# Altium schematic symbol library SCH - MCU - ATSAM - MICROCHIP SAMD51P19A-CTU TFBGA120.SchLib: 1 symbol
Pins are listed as number, name and electrical type; pins without a type are passive.

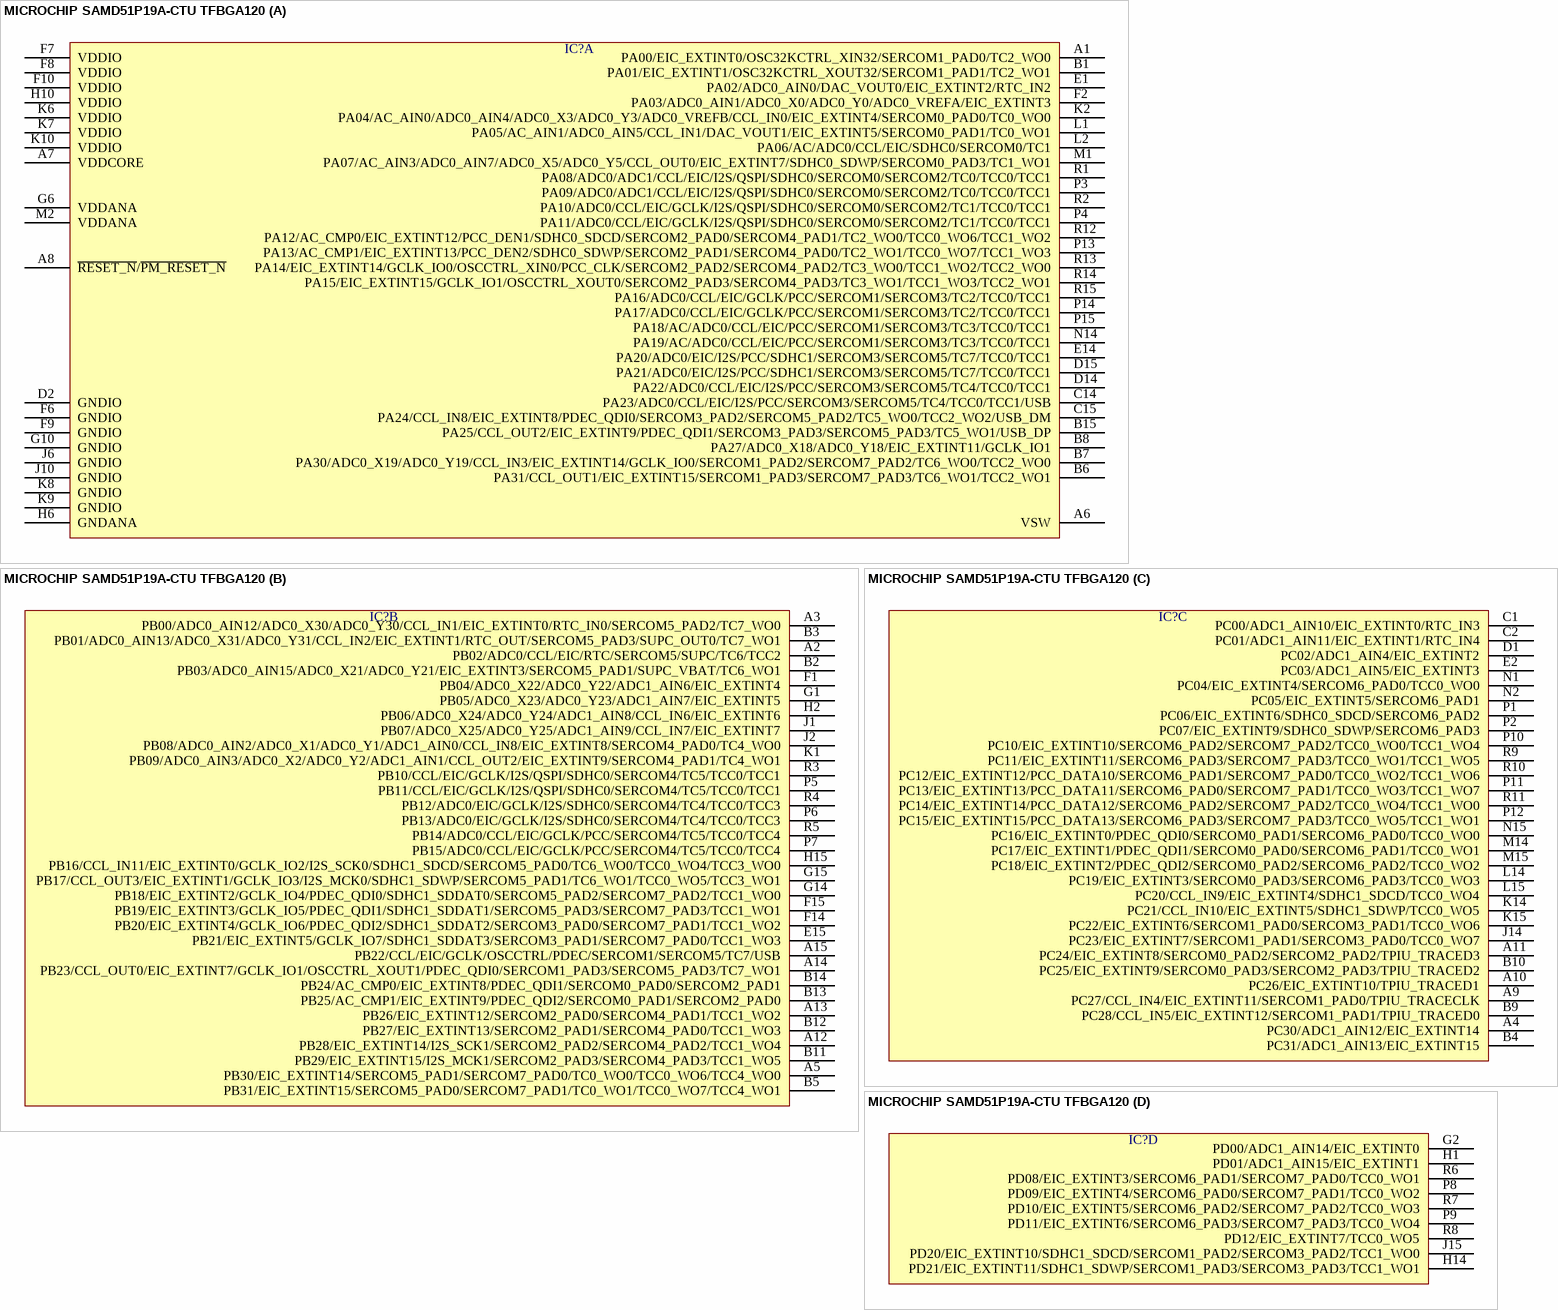
[diagram p0: symbol MICROCHIP SAMD51P19A-CTU TFBGA120]

## MICROCHIP SAMD51P19A-CTU TFBGA120
designator IC?  (value not drawn)
part A pins: A1 PA00/EIC_EXTINT0/OSC32KCTRL_XIN32/SERCOM1_PAD0/TC2_WO0, A6 VSW, A7 VDDCORE, A8 ~{RESET_N}/~{PM_RESET_N}, B1 PA01/EIC_EXTINT1/OSC32KCTRL_XOUT32/SERCOM1_PAD1/TC2_WO1, B6 PA31/CCL_OUT1/EIC_EXTINT15/SERCOM1_PAD3/SERCOM7_PAD3/TC6_WO1/TCC2_WO1, B7 PA30/ADC0_X19/ADC0_Y19/CCL_IN3/EIC_EXTINT14/GCLK_IO0/SERCOM1_PAD2/SERCOM7_PAD2/TC6_WO0/TCC2_WO0, B8 PA27/ADC0_X18/ADC0_Y18/EIC_EXTINT11/GCLK_IO1, B15 PA25/CCL_OUT2/EIC_EXTINT9/PDEC_QDI1/SERCOM3_PAD3/SERCOM5_PAD3/TC5_WO1/USB_DP, C14 PA23/ADC0/CCL/EIC/I2S/PCC/SERCOM3/SERCOM5/TC4/TCC0/TCC1/USB, C15 PA24/CCL_IN8/EIC_EXTINT8/PDEC_QDI0/SERCOM3_PAD2/SERCOM5_PAD2/TC5_WO0/TCC2_WO2/USB_DM, D2 GNDIO, D14 PA22/ADC0/CCL/EIC/I2S/PCC/SERCOM3/SERCOM5/TC4/TCC0/TCC1, D15 PA21/ADC0/EIC/I2S/PCC/SDHC1/SERCOM3/SERCOM5/TC7/TCC0/TCC1, E1 PA02/ADC0_AIN0/DAC_VOUT0/EIC_EXTINT2/RTC_IN2, E14 PA20/ADC0/EIC/I2S/PCC/SDHC1/SERCOM3/SERCOM5/TC7/TCC0/TCC1, F2 PA03/ADC0_AIN1/ADC0_X0/ADC0_Y0/ADC0_VREFA/EIC_EXTINT3, F6 GNDIO, F7 VDDIO, F8 VDDIO, F9 GNDIO, F10 VDDIO, G6 VDDANA, G10 GNDIO, H6 GNDANA, H10 VDDIO, J6 GNDIO, J10 GNDIO, K2 PA04/AC_AIN0/ADC0_AIN4/ADC0_X3/ADC0_Y3/ADC0_VREFB/CCL_IN0/EIC_EXTINT4/SERCOM0_PAD0/TC0_WO0, K6 VDDIO, K7 VDDIO, K8 GNDIO, K9 GNDIO, K10 VDDIO, L1 PA05/AC_AIN1/ADC0_AIN5/CCL_IN1/DAC_VOUT1/EIC_EXTINT5/SERCOM0_PAD1/TC0_WO1, L2 PA06/AC/ADC0/CCL/EIC/SDHC0/SERCOM0/TC1, M1 PA07/AC_AIN3/ADC0_AIN7/ADC0_X5/ADC0_Y5/CCL_OUT0/EIC_EXTINT7/SDHC0_SDWP/SERCOM0_PAD3/TC1_WO1, M2 VDDANA, N14 PA19/AC/ADC0/CCL/EIC/PCC/SERCOM1/SERCOM3/TC3/TCC0/TCC1, P3 PA09/ADC0/ADC1/CCL/EIC/I2S/QSPI/SDHC0/SERCOM0/SERCOM2/TC0/TCC0/TCC1, P4 PA11/ADC0/CCL/EIC/GCLK/I2S/QSPI/SDHC0/SERCOM0/SERCOM2/TC1/TCC0/TCC1, P13 PA13/AC_CMP1/EIC_EXTINT13/PCC_DEN2/SDHC0_SDWP/SERCOM2_PAD1/SERCOM4_PAD0/TC2_WO1/TCC0_WO7/TCC1_WO3, P14 PA17/ADC0/CCL/EIC/GCLK/PCC/SERCOM1/SERCOM3/TC2/TCC0/TCC1, P15 PA18/AC/ADC0/CCL/EIC/PCC/SERCOM1/SERCOM3/TC3/TCC0/TCC1, R1 PA08/ADC0/ADC1/CCL/EIC/I2S/QSPI/SDHC0/SERCOM0/SERCOM2/TC0/TCC0/TCC1, R2 PA10/ADC0/CCL/EIC/GCLK/I2S/QSPI/SDHC0/SERCOM0/SERCOM2/TC1/TCC0/TCC1, R12 PA12/AC_CMP0/EIC_EXTINT12/PCC_DEN1/SDHC0_SDCD/SERCOM2_PAD0/SERCOM4_PAD1/TC2_WO0/TCC0_WO6/TCC1_WO2, R13 PA14/EIC_EXTINT14/GCLK_IO0/OSCCTRL_XIN0/PCC_CLK/SERCOM2_PAD2/SERCOM4_PAD2/TC3_WO0/TCC1_WO2/TCC2_WO0, R14 PA15/EIC_EXTINT15/GCLK_IO1/OSCCTRL_XOUT0/SERCOM2_PAD3/SERCOM4_PAD3/TC3_WO1/TCC1_WO3/TCC2_WO1, R15 PA16/ADC0/CCL/EIC/GCLK/PCC/SERCOM1/SERCOM3/TC2/TCC0/TCC1
part B pins: A2 PB02/ADC0/CCL/EIC/RTC/SERCOM5/SUPC/TC6/TCC2, A3 PB00/ADC0_AIN12/ADC0_X30/ADC0_Y30/CCL_IN1/EIC_EXTINT0/RTC_IN0/SERCOM5_PAD2/TC7_WO0, A5 PB30/EIC_EXTINT14/SERCOM5_PAD1/SERCOM7_PAD0/TC0_WO0/TCC0_WO6/TCC4_WO0, A12 PB28/EIC_EXTINT14/I2S_SCK1/SERCOM2_PAD2/SERCOM4_PAD2/TCC1_WO4, A13 PB26/EIC_EXTINT12/SERCOM2_PAD0/SERCOM4_PAD1/TCC1_WO2, A14 PB23/CCL_OUT0/EIC_EXTINT7/GCLK_IO1/OSCCTRL_XOUT1/PDEC_QDI0/SERCOM1_PAD3/SERCOM5_PAD3/TC7_WO1, A15 PB22/CCL/EIC/GCLK/OSCCTRL/PDEC/SERCOM1/SERCOM5/TC7/USB, B2 PB03/ADC0_AIN15/ADC0_X21/ADC0_Y21/EIC_EXTINT3/SERCOM5_PAD1/SUPC_VBAT/TC6_WO1, B3 PB01/ADC0_AIN13/ADC0_X31/ADC0_Y31/CCL_IN2/EIC_EXTINT1/RTC_OUT/SERCOM5_PAD3/SUPC_OUT0/TC7_WO1, B5 PB31/EIC_EXTINT15/SERCOM5_PAD0/SERCOM7_PAD1/TC0_WO1/TCC0_WO7/TCC4_WO1, B11 PB29/EIC_EXTINT15/I2S_MCK1/SERCOM2_PAD3/SERCOM4_PAD3/TCC1_WO5, B12 PB27/EIC_EXTINT13/SERCOM2_PAD1/SERCOM4_PAD0/TCC1_WO3, B13 PB25/AC_CMP1/EIC_EXTINT9/PDEC_QDI2/SERCOM0_PAD1/SERCOM2_PAD0, B14 PB24/AC_CMP0/EIC_EXTINT8/PDEC_QDI1/SERCOM0_PAD0/SERCOM2_PAD1, E15 PB21/EIC_EXTINT5/GCLK_IO7/SDHC1_SDDAT3/SERCOM3_PAD1/SERCOM7_PAD0/TCC1_WO3, F1 PB04/ADC0_X22/ADC0_Y22/ADC1_AIN6/EIC_EXTINT4, F14 PB20/EIC_EXTINT4/GCLK_IO6/PDEC_QDI2/SDHC1_SDDAT2/SERCOM3_PAD0/SERCOM7_PAD1/TCC1_WO2, F15 PB19/EIC_EXTINT3/GCLK_IO5/PDEC_QDI1/SDHC1_SDDAT1/SERCOM5_PAD3/SERCOM7_PAD3/TCC1_WO1, G1 PB05/ADC0_X23/ADC0_Y23/ADC1_AIN7/EIC_EXTINT5, G14 PB18/EIC_EXTINT2/GCLK_IO4/PDEC_QDI0/SDHC1_SDDAT0/SERCOM5_PAD2/SERCOM7_PAD2/TCC1_WO0, G15 PB17/CCL_OUT3/EIC_EXTINT1/GCLK_IO3/I2S_MCK0/SDHC1_SDWP/SERCOM5_PAD1/TC6_WO1/TCC0_WO5/TCC3_WO1, H2 PB06/ADC0_X24/ADC0_Y24/ADC1_AIN8/CCL_IN6/EIC_EXTINT6, H15 PB16/CCL_IN11/EIC_EXTINT0/GCLK_IO2/I2S_SCK0/SDHC1_SDCD/SERCOM5_PAD0/TC6_WO0/TCC0_WO4/TCC3_WO0, J1 PB07/ADC0_X25/ADC0_Y25/ADC1_AIN9/CCL_IN7/EIC_EXTINT7, J2 PB08/ADC0_AIN2/ADC0_X1/ADC0_Y1/ADC1_AIN0/CCL_IN8/EIC_EXTINT8/SERCOM4_PAD0/TC4_WO0, K1 PB09/ADC0_AIN3/ADC0_X2/ADC0_Y2/ADC1_AIN1/CCL_OUT2/EIC_EXTINT9/SERCOM4_PAD1/TC4_WO1, P5 PB11/CCL/EIC/GCLK/I2S/QSPI/SDHC0/SERCOM4/TC5/TCC0/TCC1, P6 PB13/ADC0/EIC/GCLK/I2S/SDHC0/SERCOM4/TC4/TCC0/TCC3, P7 PB15/ADC0/CCL/EIC/GCLK/PCC/SERCOM4/TC5/TCC0/TCC4, R3 PB10/CCL/EIC/GCLK/I2S/QSPI/SDHC0/SERCOM4/TC5/TCC0/TCC1, R4 PB12/ADC0/EIC/GCLK/I2S/SDHC0/SERCOM4/TC4/TCC0/TCC3, R5 PB14/ADC0/CCL/EIC/GCLK/PCC/SERCOM4/TC5/TCC0/TCC4
part C pins: A4 PC30/ADC1_AIN12/EIC_EXTINT14, A9 PC27/CCL_IN4/EIC_EXTINT11/SERCOM1_PAD0/TPIU_TRACECLK, A10 PC26/EIC_EXTINT10/TPIU_TRACED1, A11 PC24/EIC_EXTINT8/SERCOM0_PAD2/SERCOM2_PAD2/TPIU_TRACED3, B4 PC31/ADC1_AIN13/EIC_EXTINT15, B9 PC28/CCL_IN5/EIC_EXTINT12/SERCOM1_PAD1/TPIU_TRACED0, B10 PC25/EIC_EXTINT9/SERCOM0_PAD3/SERCOM2_PAD3/TPIU_TRACED2, C1 PC00/ADC1_AIN10/EIC_EXTINT0/RTC_IN3, C2 PC01/ADC1_AIN11/EIC_EXTINT1/RTC_IN4, D1 PC02/ADC1_AIN4/EIC_EXTINT2, E2 PC03/ADC1_AIN5/EIC_EXTINT3, J14 PC23/EIC_EXTINT7/SERCOM1_PAD1/SERCOM3_PAD0/TCC0_WO7, K14 PC21/CCL_IN10/EIC_EXTINT5/SDHC1_SDWP/TCC0_WO5, K15 PC22/EIC_EXTINT6/SERCOM1_PAD0/SERCOM3_PAD1/TCC0_WO6, L14 PC19/EIC_EXTINT3/SERCOM0_PAD3/SERCOM6_PAD3/TCC0_WO3, L15 PC20/CCL_IN9/EIC_EXTINT4/SDHC1_SDCD/TCC0_WO4, M14 PC17/EIC_EXTINT1/PDEC_QDI1/SERCOM0_PAD0/SERCOM6_PAD1/TCC0_WO1, M15 PC18/EIC_EXTINT2/PDEC_QDI2/SERCOM0_PAD2/SERCOM6_PAD2/TCC0_WO2, N1 PC04/EIC_EXTINT4/SERCOM6_PAD0/TCC0_WO0, N2 PC05/EIC_EXTINT5/SERCOM6_PAD1, N15 PC16/EIC_EXTINT0/PDEC_QDI0/SERCOM0_PAD1/SERCOM6_PAD0/TCC0_WO0, P1 PC06/EIC_EXTINT6/SDHC0_SDCD/SERCOM6_PAD2, P2 PC07/EIC_EXTINT9/SDHC0_SDWP/SERCOM6_PAD3, P10 PC10/EIC_EXTINT10/SERCOM6_PAD2/SERCOM7_PAD2/TCC0_WO0/TCC1_WO4, P11 PC13/EIC_EXTINT13/PCC_DATA11/SERCOM6_PAD0/SERCOM7_PAD1/TCC0_WO3/TCC1_WO7, P12 PC15/EIC_EXTINT15/PCC_DATA13/SERCOM6_PAD3/SERCOM7_PAD3/TCC0_WO5/TCC1_WO1, R9 PC11/EIC_EXTINT11/SERCOM6_PAD3/SERCOM7_PAD3/TCC0_WO1/TCC1_WO5, R10 PC12/EIC_EXTINT12/PCC_DATA10/SERCOM6_PAD1/SERCOM7_PAD0/TCC0_WO2/TCC1_WO6, R11 PC14/EIC_EXTINT14/PCC_DATA12/SERCOM6_PAD2/SERCOM7_PAD2/TCC0_WO4/TCC1_WO0
part D pins: G2 PD00/ADC1_AIN14/EIC_EXTINT0, H1 PD01/ADC1_AIN15/EIC_EXTINT1, H14 PD21/EIC_EXTINT11/SDHC1_SDWP/SERCOM1_PAD3/SERCOM3_PAD3/TCC1_WO1, J15 PD20/EIC_EXTINT10/SDHC1_SDCD/SERCOM1_PAD2/SERCOM3_PAD2/TCC1_WO0, P8 PD09/EIC_EXTINT4/SERCOM6_PAD0/SERCOM7_PAD1/TCC0_WO2, P9 PD11/EIC_EXTINT6/SERCOM6_PAD3/SERCOM7_PAD3/TCC0_WO4, R6 PD08/EIC_EXTINT3/SERCOM6_PAD1/SERCOM7_PAD0/TCC0_WO1, R7 PD10/EIC_EXTINT5/SERCOM6_PAD2/SERCOM7_PAD2/TCC0_WO3, R8 PD12/EIC_EXTINT7/TCC0_WO5